# EAGLE library part 691401710007 (library Wurth_Elektronik_Electromechanic_Terminal_Blocks_Connectors_rev15c)
WR-TBL Terminal block - serie 401 5,0mm - Spring clamp/Screw less - horizontal entry - 07p Code:Con_TBL_Screwless_5.00_6914017100xxB_691401710007 <http://katalog.we-online.de/media/images/eican/Con_TBL_Screwless_5.00_6914017100xxB_pf2.jpg> Details see: http://katalog.we-online.de/en/em/691_401_710_0xx/691_401_710_007B?m Created 2014-12-22, aslant tao 2014 (C) Würth Elektronik
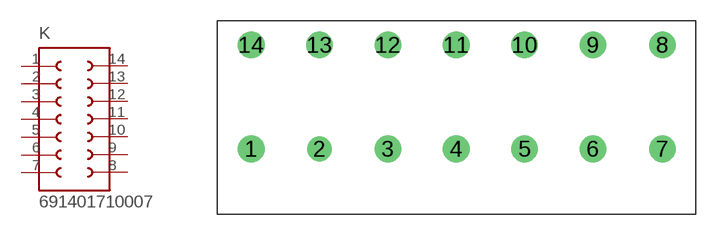
[diagram p236: symbol with the pads of 691401710007; footprint 691401710007]

Designator prefix K

## 691401710007  [691401710007]
1  1  pas
2  2  pas
3  3  pas
4  4  pas
5  5  pas
6  6  pas
7  7  pas
8  8  pas
9  9  pas
10  10  pas
11  11  pas
12  12  pas
13  13  pas
14  14  pas

## Footprint 691401710007 (pad centres in mm)
WR-TBL Serie 401 - 5.0mm Screwless Horizontal Entry - 2 mm2 Wires, 7 Pins
drill 1.3: 1 -25.08,0; 3 -15.08,0; 4 -10.08,0; 5 -5.08,0; 6 -0.08,0; 7 5,0; 8 5,7.62; 9 -0.08,7.62; 10 -5.08,7.62; 11 -10.08,7.62; 12 -15.08,7.62; 13 -20.08,7.62; 14 -25.08,7.62
drill 1.2: 2 -20.08,0